# Altium footprint library INDP2016X10L.PcbLib: 1 footprints
Each footprint in its own frame and in the unit in brackets; x right, y up, seen from the top. Pads: shape width x height; smd on the part's side, far side on the other; paste and mask are expansions set on the pad; w line width, h text height; cw(c..) or ccw(c..) is an arc to the next point about the centre after c.
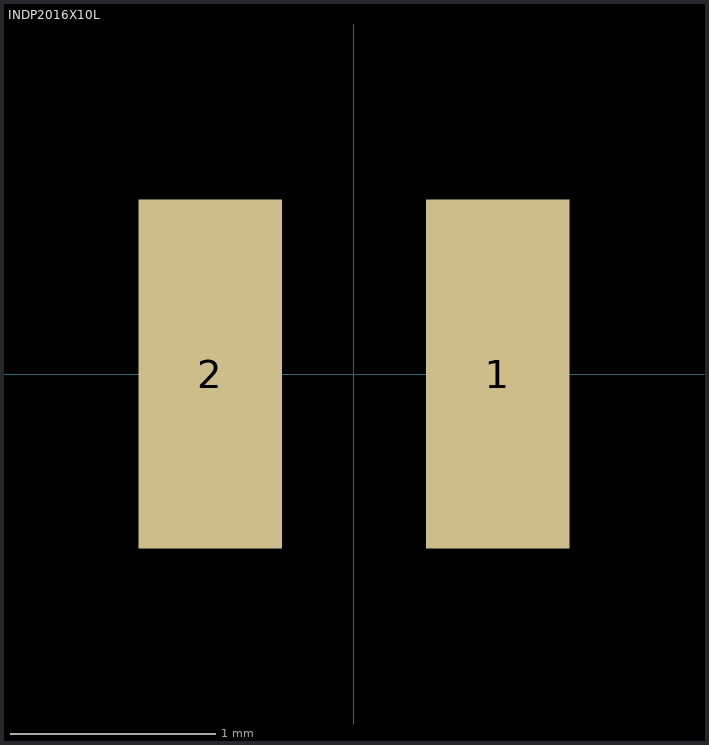
[diagram p0: the footprint, top view; thin cyan lines are the x and y axes]

## INDP2016X10L [mm]
height 1
pads (2):
  rect 0.7x1.7 smd: 1(0.7,0) 2(-0.7,0)
3D body: height 1.04, standoff 0, extent -1.01,-0.8 1.01,0.8